# Altium footprint library Components.PcbLib: 66 footprints (part 2 of 5)
Each footprint in its own frame and in the unit in brackets; x right, y up, seen from the top. Pads: shape width x height; smd on the part's side, far side on the other; paste and mask are expansions set on the pad; w line width, h text height; cw(c..) or ccw(c..) is an arc to the next point about the centre after c.
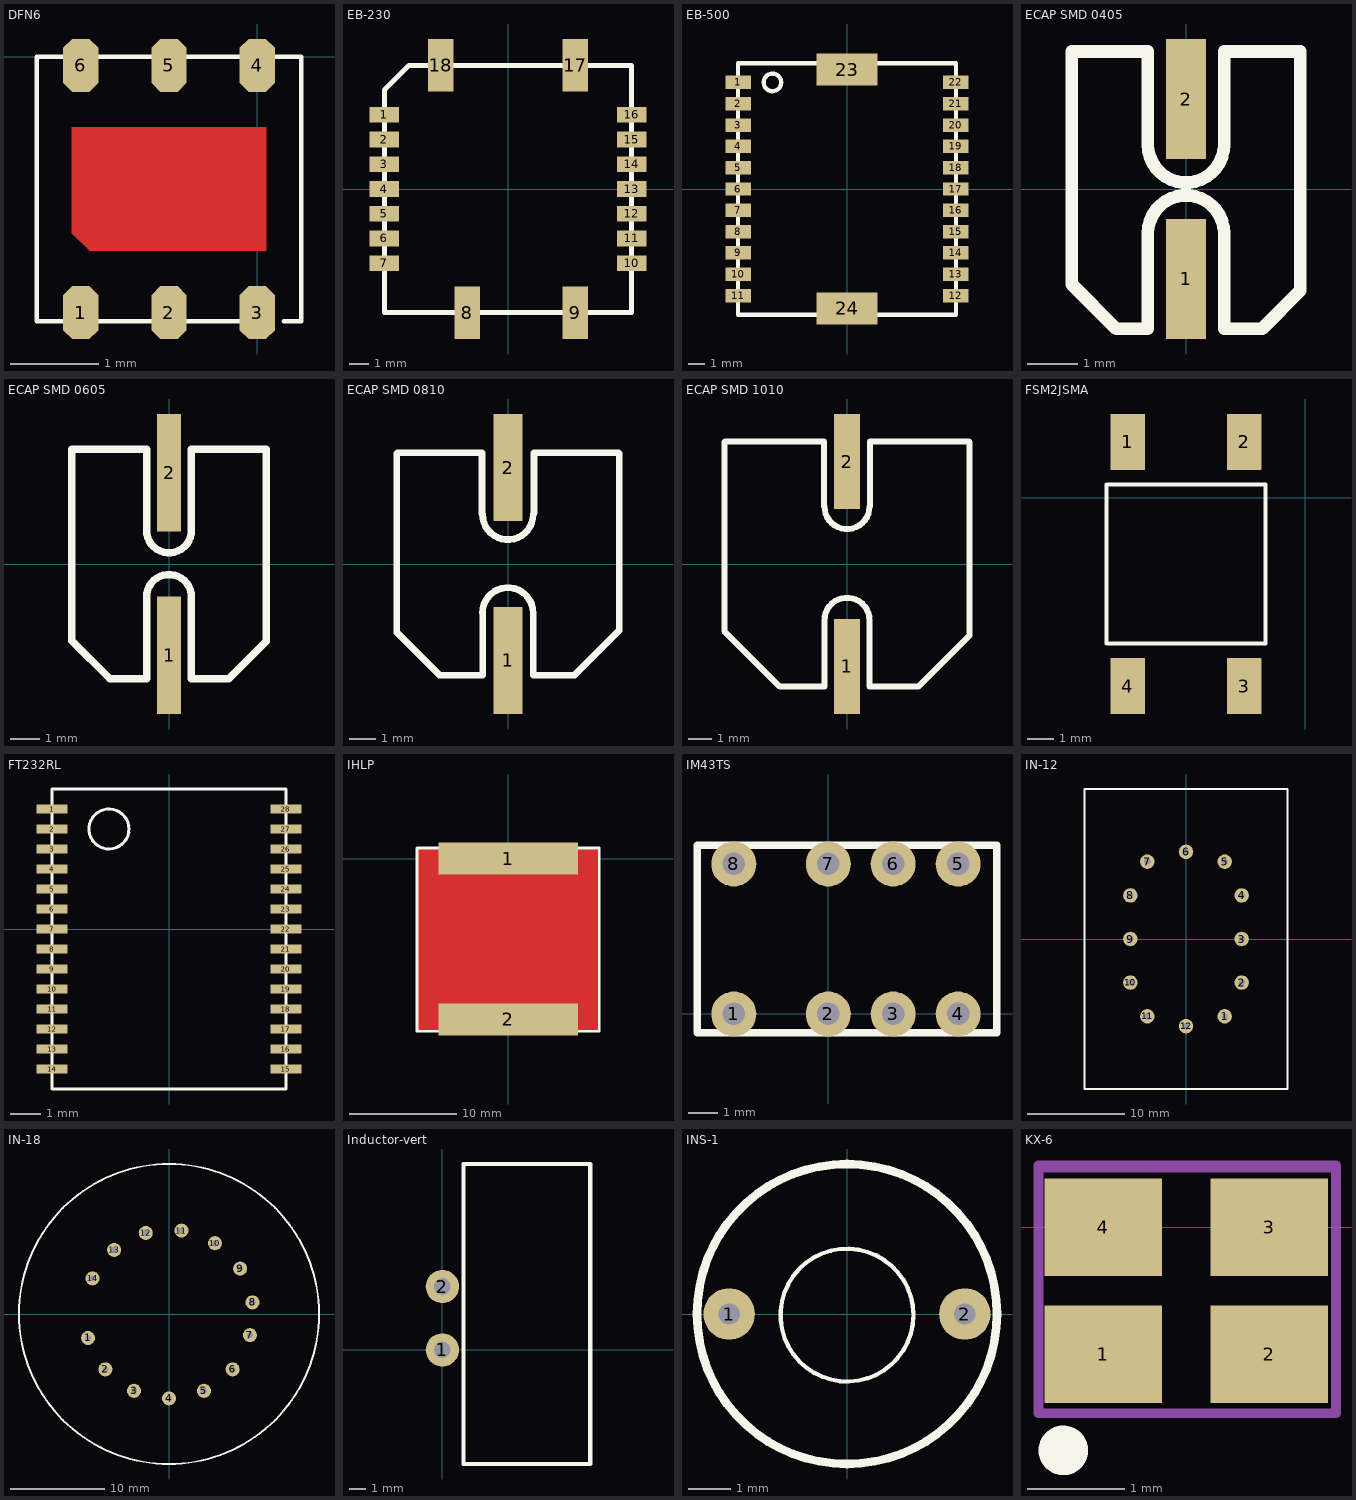
[diagram p1: the footprints below, top view; thin cyan lines are the x and y axes]

## DFN6 [mm]
pads (6):
  oct 0.4x0.6 smd: 1(-2,-2.9) 2(-1,-2.9) 3(0,-2.9) 4(0,-0.1) 5(-1,-0.1) 6(-2,-0.1)
Top Layer:
  region: -2.1,-0.8 0.1,-0.8 0.1,-2.2 -1.9,-2.2 -2.1,-2
Top Overlay:
  lines w0.05: -2.2,-3 -2.3,-3 -2.5,-3 -2.5,0 -2.2,0 ; -1.8,-3 -1.2,-3 ; -1.8,0 -1.2,0 ; -0.8,-3 -0.2,-3 ; -0.8,0 -0.2,0 ; 0.2,0 0.5,0 0.5,-3 0.3,-3
3D body: height 1.1, standoff 0, extent -2.5,-3 0.5,0

## EB-230 [mm]
pads (18):
  rect 1.5x0.8 smd: 1(-6.35,3.81) 2(-6.35,2.54) 3(-6.35,1.27) 4(-6.35,0) 5(-6.35,-1.27) 6(-6.35,-2.54) 7(-6.35,-3.81) 10(6.35,-3.81) 11(6.35,-2.54) 12(6.35,-1.27) 13(6.35,0) 14(6.35,1.27) 15(6.35,2.54) 16(6.35,3.81)
  rect 1.3x2.7 smd: 8(-2.1,-6.35) 9(3.46,-6.35) 17(3.46,6.35) 18(-3.46,6.35)
Top Overlay:
  lines w0.254: -6.35,-6.35 6.35,-6.35 6.35,6.35 -5.08,6.35 -6.35,5.08 -6.35,-6.35
3D body: height 3, standoff 0, extent -6.477,-6.477 6.477,6.477

## EB-500 [mil]
height 39.37
pads (24):
  rect 60x31.5 smd: 1(-255,250) 2(-255,200) 3(-255,150) 4(-255,100) 5(-255,50) 6(-255,0) 7(-255,-50) 8(-255,-100) 9(-255,-150) 10(-255,-200) 11(-255,-250) 12(255,-250) 13(255,-200) 14(255,-150) 15(255,-100) 16(255,-50) 17(255,0) 18(255,50) 19(255,100) 20(255,150) 21(255,200) 22(255,250)
  rect 143.7x74.8 smd: 23(0,280) 24(0,-280)
Top Overlay:
  circle w10: c-175,250 r20.62
  lines w10: -255.91,-295.28 255.91,-295.28 255.91,295.28 -255.91,295.28 -255.91,-295.28
3D body: height 39.37, standoff 0, extent -255,-295 255,295

## ECAP SMD 0405 [mm]
height 5.4
pads (2):
  rect 0.8x2.4 smd: 1(0,-1.8) 2(0,1.8)
Top Overlay:
  lines w0.254: -0.763,-0.889 cw(c0,-0.889) 0.762,-0.889 0.762,-2.794 1.524,-2.794 2.286,-2.032 2.286,2.75 0.762,2.75 0.762,0.889 cw(c0,0.889) -0.763,0.889 ; -0.762,-0.889 -0.762,-2.794 -1.397,-2.794 -2.286,-1.905 -2.286,2.75 -0.762,2.75 -0.762,0.889
3D body: height 1.2, standoff 0, extent -2.032,-1.996 1.952,1.996
3D body: height 1, standoff 0, extent -2.413,-2.921 2.413,2.794
3D body: height 2, standoff 1.2, extent -1.808,-1.796 1.778,1.796
3D body: height 5.6, standoff 2, extent -2.032,-1.996 1.952,1.996

## ECAP SMD 0605 [mm]
height 5.4
pads (2):
  rect 0.8x4 smd: 1(0,-3.1) 2(0,3.1)
Top Overlay:
  lines w0.254: -3.3,-2.607 -2.007,-3.9 -0.762,-3.9 -0.762,-1.118 cw(c0,-1.118) 0.762,-1.118 0.762,-3.9 2.032,-3.9 3.3,-2.632 3.3,3.9 0.762,3.9 0.762,1.143 cw(c0,1.143) -0.762,1.143 -0.762,3.9 -3.3,3.9 -3.3,-2.607
3D body: height 1.2, standoff 0, extent -3.126,-3.195 3.15,3.093
3D body: height 1, standoff 0, extent -3.429,-4.039 3.429,4.039
3D body: height 2, standoff 1.2, extent -2.784,-2.845 2.794,2.744
3D body: height 5.6, standoff 2, extent -3.124,-3.189 3.151,3.099

## ECAP SMD 0810 [mm]
pads (2):
  rect 1.1x4 smd: 1(0,-3.6) 2(0,3.6)
Top Overlay:
  lines w0.254: -4.15,4.131 -4.15,-2.556 -2.556,-4.15 -0.94,-4.15 ; -4.131,4.15 -0.965,4.15 ; -0.965,1.88 -0.965,4.14 ; -0.953,-1.829 cw(c-0.007,-1.829) 0.94,-1.829 ; -0.951,1.854 ccw(c-0.005,1.854) 0.94,1.854 ; -0.94,-4.14 -0.94,-1.803 ; 0.94,-4.15 2.479,-4.15 4.15,-2.479 4.15,4.131 ; 0.94,-4.14 0.94,-1.854 ; 0.965,1.905 0.965,4.14 ; 0.965,4.15 4.131,4.15
3D body: height 1.5, standoff 0, extent -4.267,-4.267 4.267,4.267
3D body: height 10.5, standoff 0, extent -3.981,-3.992 3.988,3.992

## ECAP SMD 1010 [mm]
pads (2):
  rect 1.1x4 smd: 1(0,-4.3) 2(0,4.3)
Top Overlay:
  lines w0.254: -5.15,5.131 -5.15,-2.819 -2.819,-5.15 -0.94,-5.15 -0.94,-2.362 ; -5.131,5.15 -0.965,5.15 -0.965,2.413 ; -0.947,-2.362 cw(c0,-2.362) 0.947,-2.362 ; -0.945,2.413 ccw(c0,2.413) 0.945,2.413 ; 0.94,-2.362 0.94,-5.15 2.997,-5.15 5.15,-2.997 5.15,5.131 ; 0.965,2.413 0.965,5.15 5.131,5.15
3D body: height 1.5, standoff 0, extent -5.15,-5.091 5.231,5.15
3D body: height 10.5, standoff 0, extent -4.96,-4.99 5,4.99

## FSM2JSMA [mm]
pads (4):
  rect 1.3x2.1 smd: 1(-6.7,2.1) 2(-2.3,2.1) 3(-2.3,-7.1) 4(-6.7,-7.1)
Top Overlay:
  lines w0.15: -7.5,-5.5 -7.5,0.5 -1.5,0.5 -1.5,-5.5 -4.5,-5.5 -7.5,-5.5
3D body: height 4.5, standoff 3.5, extent -6.186,-4.197 -2.8,-0.803
3D body: height 3.5, standoff 0, extent -7.421,-5.548 -1.579,0.548

## FT232RL [mm]
pads (28):
  rect 1x0.3 smd: 1(-3.8,3.9) 2(-3.8,3.25) 3(-3.8,2.6) 4(-3.8,1.95) 5(-3.8,1.3) 6(-3.8,0.65) 7(-3.8,0) 8(-3.8,-0.65) 9(-3.8,-1.3) 10(-3.8,-1.95) 11(-3.8,-2.6) 12(-3.8,-3.25) 13(-3.8,-3.9) 14(-3.8,-4.55) 15(3.8,-4.55) 16(3.8,-3.9) 17(3.8,-3.25) 18(3.8,-2.6) 19(3.8,-1.95) 20(3.8,-1.3) 21(3.8,-0.65) 22(3.8,0) 23(3.8,0.65) 24(3.8,1.3) 25(3.8,1.95) 26(3.8,2.6) 27(3.8,3.25) 28(3.8,3.9)
Top Overlay:
  circle w0.1: c-1.95,3.25 r0.65
  lines w0.1: -3.8,-5.2 -3.8,4.55 3.8,4.55 3.8,-5.2 -3.8,-5.2
3D body: height 2, standoff 0, extent -3.81,-5.207 3.81,4.547

## IHLP [mm]
pads (2):
  rect 13x3 smd: 1(0,0) 2(0,-15)
Top Layer:
  pour cut-out: 8.509,1 8.509,-16.1 -8.532,-16.1 -8.532,1
Top Overlay:
  lines w0.254: -8.509,-16.1 8.509,-16.1 8.509,1 -8.509,1 -8.509,-16.1
3D body: height 7, standoff 0, extent -8.508,-16.1 8.509,1.075

## IM43TS [mil]
pads (8):
  round 60 hole 30: 1(-125.98,0) 2(0,0) 3(86.61,0) 4(173.23,0) 5(173.23,200) 6(86.61,200) 7(0,200) 8(-125.98,200)
Top Overlay:
  lines w10: -175,-25 -175,225 225,225 225,-25 -175,-25

## IN-12 [mm]
height 31
pads (12):
  round 1.5 hole 0.65: 1(4,-8) 2(5.75,-4.5) 3(5.75,0) 4(5.75,4.5) 5(4,8) 6(0,9) 7(-4,8) 8(-5.75,4.5) 9(-5.75,0) 10(-5.75,-4.5) 11(-4,-8) 12(0,-9)
Top Overlay:
  lines w0.2: -10.5,-15.5 10.5,-15.5 10.5,15.5 -10.5,15.5 -10.5,-15.5
3D body "in-12-pins.STEP": height 9.63, standoff -2.87, extent -6.241,-9.519 6.359,9.581

## IN-18 [mm]
height 74
pads (14):
  round 1.5 hole 0.65: 1(-8.63,-2.56) 2(-6.79,-5.9) 3(-3.73,-8.19) 4(0,-9) 5(3.73,-8.19) 6(6.79,-5.9) 7(8.63,-2.26) 8(8.91,1.25) 9(7.59,4.84) 10(4.9,7.55) 11(1.33,8.9) 12(-2.48,8.65) 13(-5.85,6.84) 14(-8.16,3.8)
Top Overlay:
  circle w0.2: c0,0 r16
3D body "in-18-pins.STEP": height 10, standoff -2.5, extent -9.179,-9.55 9.459,9.449
3D body: height 26.5, standoff 0, extent -0.61,-0.152 -0.61,-0.152

## Inductor-vert [mm]
height 20
pads (2):
  round 2 hole 1: 1(0,0) 2(0,3.81)
Top Overlay:
  lines w0.254: 1.27,-6.858 1.27,2.032 1.27,11.176 8.89,11.176 8.89,-6.858 1.27,-6.858
3D body: height 16, standoff 0, extent 2.032,-5.842 8.332,10.158

## INS-1 [mm]
height 28
pads (2):
  round 1.2 hole 0.5: 1(-2.75,0) 2(2.75,0)
Top Overlay:
  circle w0.2: c0,0 r3.5
  circle w0.1: c0,-0.025 r1.55

## KX-6 [mm]
height 1
pads (4):
  rect 1.2x1 smd: 1(-3.4,-1.3) 2(-1.7,-1.3) 3(-1.7,0) 4(-3.4,0)
Top Overlay:
  circle w0.254: c-3.81,-2.286 r0.127
Mechanical 13:
  lines w0.05: -4.089,-1.88 -1.016,-1.88 -1.016,0.584 -4.089,0.584 -4.089,-1.88
Mechanical 15:
  lines w0.1: -4.064,-1.905 -1.016,-1.905 -1.016,0.635 -4.064,0.635 -4.064,-1.905
3D body: height 0.55, standoff 0, extent -4.115,-1.905 -0.991,0.61